# EAGLE library part AD5171 (library CalvEngIO-DigitalIC)
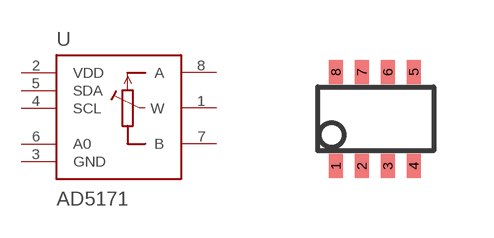
[diagram p2: symbol with the pads of SOT-23-8; footprint SOT-23-8]

Designator prefix -

## AD5171  [SOT-23-8]
1  W
2  VDD
3  GND
4  SCL
5  SDA
6  A0
7  B
8  A

## Footprint SOT-23-8 (pad centres in mm)
smd 0.35 x 0.6: 1 -0.991,-1.176; 2 -0.341,-1.176; 3 0.309,-1.176; 4 0.959,-1.176; 5 0.959,1.176; 6 0.309,1.176; 7 -0.341,1.176; 8 -0.991,1.176